# EAGLE library part 74*595 (library toyotune)
8-bit SHIFT REGISTER, output latch
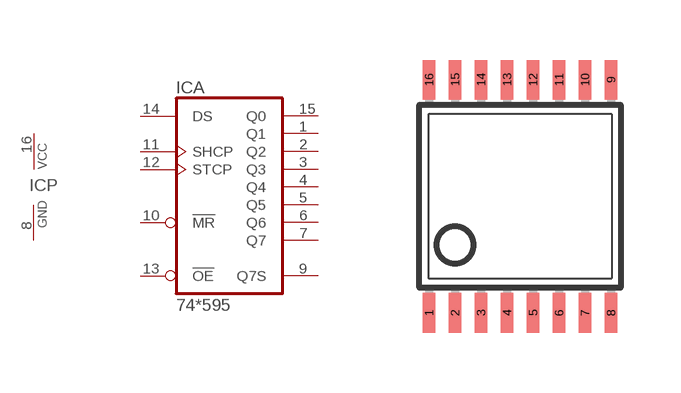
[diagram p38: symbol with the pads of TSSOP16; footprint TSSOP16]

Designator prefix IC; gates A=74595 P=PWRN-1

## 74595PW  [TSSOP16]
1  A:Q1  hiz
2  A:Q2  hiz
3  A:Q3  hiz
4  A:Q4  hiz
5  A:Q5  hiz
6  A:Q6  hiz
7  A:Q7  hiz
8  P:GND  pwr
9  A:Q7S  hiz
10  A:!MR  in
11  A:SHCP  in
12  A:STCP  in
13  A:!OE  in
14  A:DS  in
15  A:Q0  hiz
16  P:VCC  pwr

## Footprint TSSOP16 (pad centres in mm)
Thin Shrink Small Outline Plastic 16 MAX3223-MAX3243.pdf
smd 0.305 x 0.991: 1 -2.275,-2.918; 2 -1.625,-2.918; 3 -0.975,-2.918; 4 -0.325,-2.918; 5 0.325,-2.918; 6 0.975,-2.918; 7 1.625,-2.918; 8 2.275,-2.918; 9 2.275,2.918; 10 1.625,2.918; 11 0.975,2.918; 12 0.325,2.918; 13 -0.325,2.918; 14 -0.975,2.918; 15 -1.625,2.918; 16 -2.275,2.918